# EAGLE library part MAX604 (library modal)
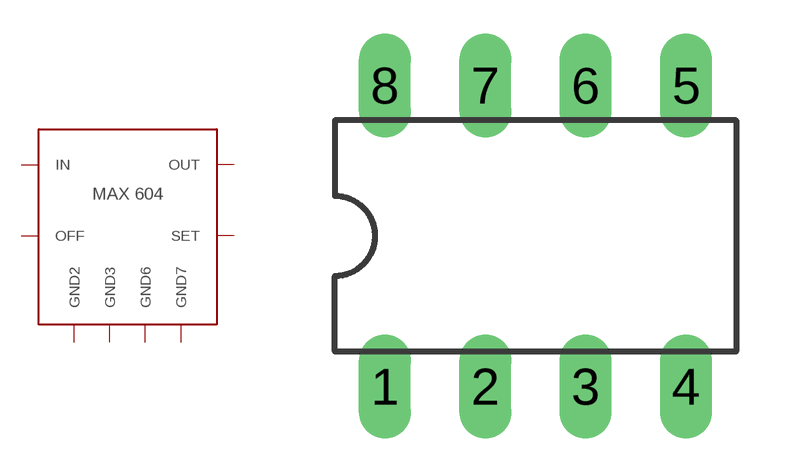
[diagram p0: symbol with the pads of DIL08; footprint DIL08]

Designator prefix -

## MAX604  [DIL08]
1  IN
2  GND2
3  GND3
4  OFF
5  SET
6  GND6
7  GND7
8  OUT

## Footprint DIL08 (pad centres in mm)
Dual In Line Package
drill 0.813 long: 1 -3.81,-3.81; 2 -1.27,-3.81; 3 1.27,-3.81; 4 3.81,-3.81; 5 3.81,3.81; 6 1.27,3.81; 7 -1.27,3.81; 8 -3.81,3.81